# EAGLE library part MAX5556 (library NBitWonder)
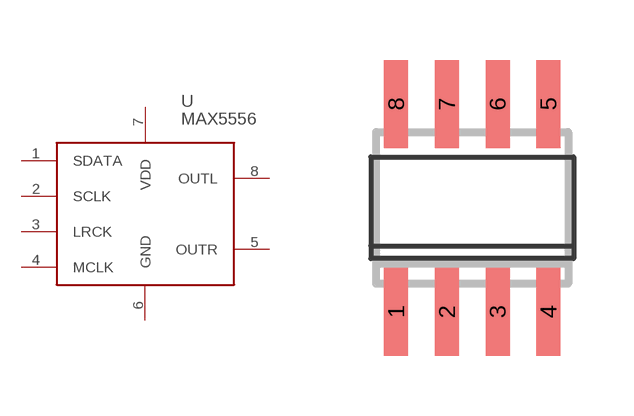
[diagram p17: symbol with the pads of SO-08; footprint SO-08]

Designator prefix -

## MAX5556  [SO-08]
1  SDATA
2  SCLK
3  LRCK
4  MCLK
5  OUTR
6  GND
7  VDD
8  OUTL

## Footprint SO-08 (pad centres in mm)
D (R-PDSO-G8) Plastic Small Outline Package Source: http://focus.ti.com/lit/ds/symlink/sn65als176.pdf
smd 0.6 x 2.2: 1 -1.905,-2.6; 2 -0.635,-2.6; 3 0.635,-2.6; 4 1.905,-2.6; 5 1.905,2.6; 6 0.635,2.6; 7 -0.635,2.6; 8 -1.905,2.6